# EAGLE library part CK1918 (library mynixies)
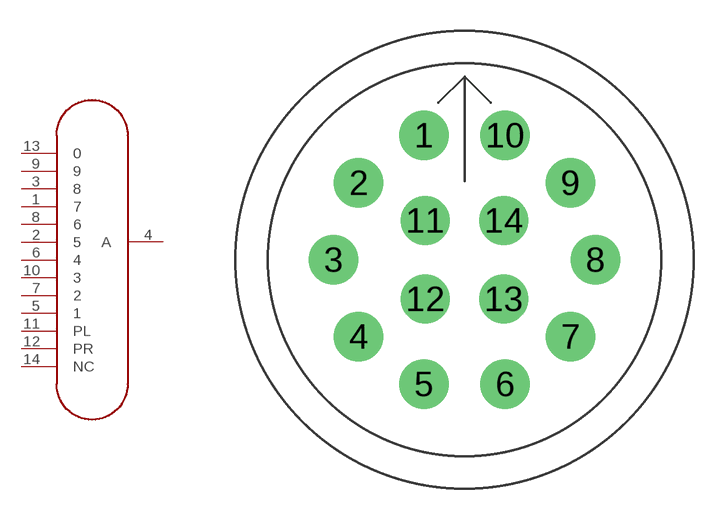
[diagram p2: symbol with the pads of RTS-14-DSUB; footprint RTS-14-DSUB]

Designator prefix U

## CK1918  [RTS-14-DSUB]
1  7  pas
2  5  pas
3  8  pas
4  A  pas
5  1  pas
6  4  pas
7  2  pas
8  6  pas
9  9  pas
10  3  pas
11  PL  pas
12  PR  pas
13  0  pas
14  NC  nc

## Footprint RTS-14-DSUB (pad centres in mm)
drill 1.6: 1 -1.962,6.039; 2 -5.137,3.732; 3 -6.35,0; 4 -5.137,-3.732; 5 -1.962,-6.039; 6 1.962,-6.039; 7 5.137,-3.732; 8 6.35,0; 9 5.137,3.732; 10 1.962,6.039; 11 -1.904,1.904; 12 -1.904,-1.904; 13 1.904,-1.904; 14 1.904,1.904